# EAGLE library part VI-AIM (library wheat)
AC IMPUT MODULE VICOR VI-AIM
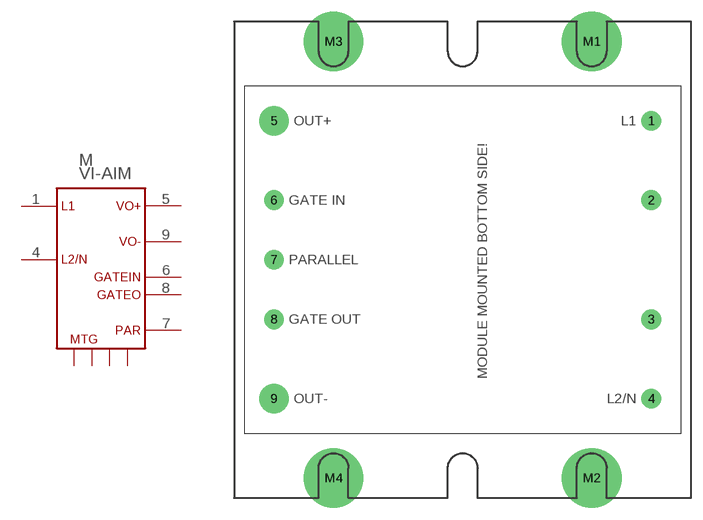
[diagram p86: symbol with the pads of VI-AIM_BS; footprint VI-AIM_BS]

Designator prefix M

## VI-AIM_BS  [VI-AIM_BS]
1  L1  pas
4  L2  pas
5  OUT+  pas
6  GATEIN  pas
7  PAR  pas
8  GATEO  pas
9  OUT-  pas
M1  MH1  pas
M2  MH2  pas
M3  MH3  pas
M4  MH4  pas

## Footprint VI-AIM_BS (pad centres in mm)
AC INPUT MODULE VICOR VI-AIM
drill 1.422 pad 2.54: 1 24.13,17.78; 2 24.13,7.62; 3 24.13,-7.62; 4 24.13,-17.78; 6 -24.13,7.62; 7 -24.13,0; 8 -24.13,-7.62
drill 2.54 pad 3.81: 5 -24.13,17.78; 9 -24.13,-17.78
drill 3.81 pad 7.62: M1 16.51,27.94; M2 16.51,-27.94; M3 -16.51,27.94; M4 -16.51,-27.94